# Altium schematic symbol library sensornode_v2.SCHLIB: 54 symbols
Pins are listed as number, name and electrical type; pins without a type are passive.

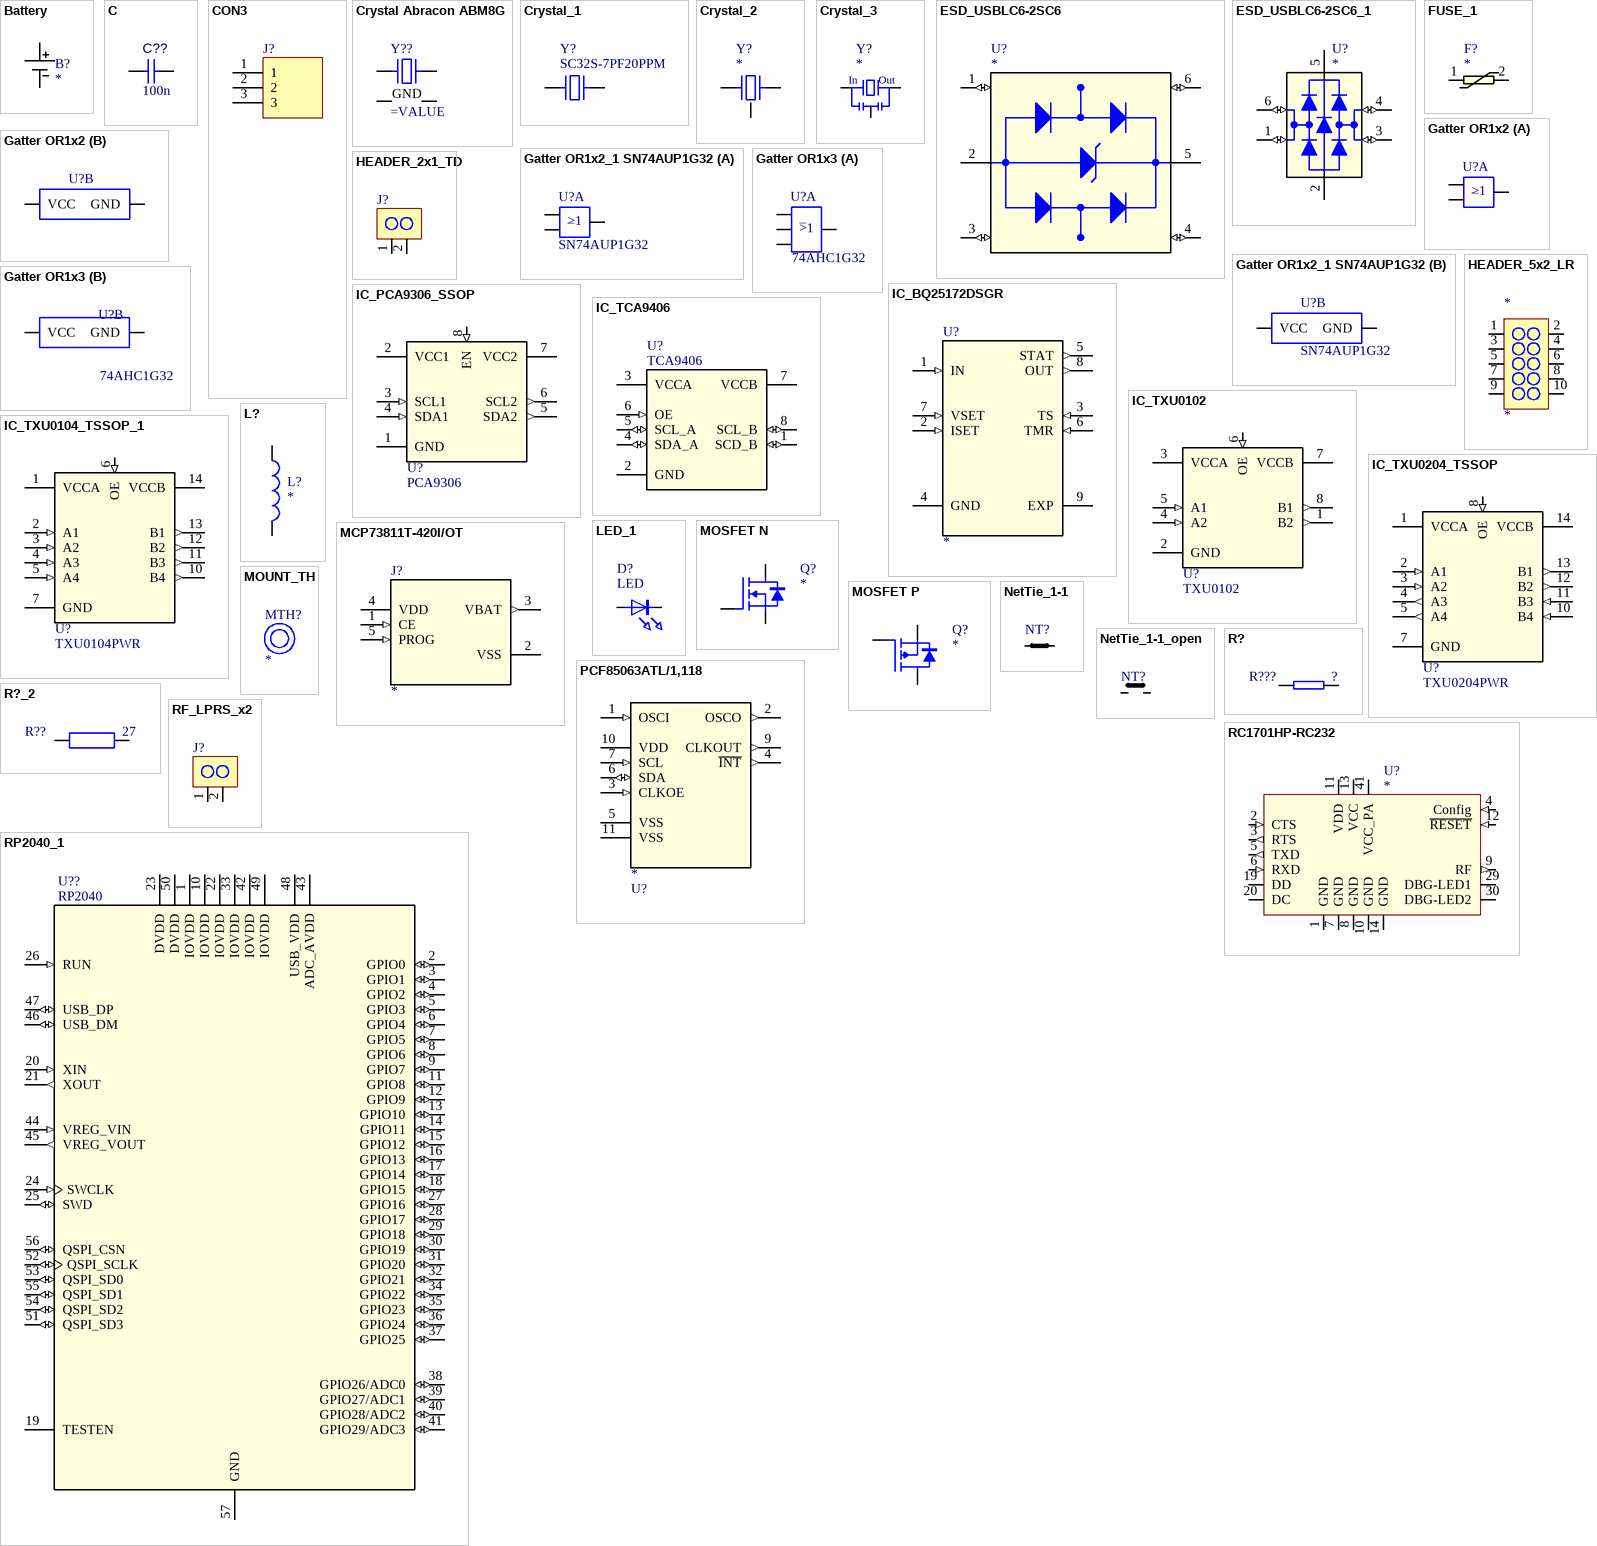
[diagram p0: symbols Battery to RP2040_1]

## Battery
designator B?
footprint BAT_CR1225_SMD_RENATA (Battery holder CR1225 SMD RENATA SMTU1225-LF)
footprint BAT_CR1216_MFR_SM_RENATA (Coin Cell Battery CR1216 2 PIN HORIZ SMT 25mAh RENATA)
pins: 1 +, 2 -

## C
designator C??, comment value 100n  (hidden comment: Capacitor 0402)
Manufacturer: TDK; Manufacturer Part Number: C1005X6S0J105K050BC; Manufacturer: Murata; Manufacturer Part Number: GRM155R60J105KE19D; Manufacturer: Kyocera AVX; Manufacturer Part Number: 04026D105KAT2A; Voltage Rating: 6.3V; Capacitor Type: Ceramic; Tolerance: 10%; Mounting Technology: SM; Min Operating Temperature: -55°C; Pins: 2; Case/Package: 0402; RoHS Compliant: True; Max Operating Temperature: 85°C; Component Type: Capacitors
footprint CAPC1005X55X25ML05T10 (Chip Capacitor, 2-Leads, Body 1.05x0.55mm, IPC Low Density)
footprint CAPC1005X55X25NL05T10 (Chip Capacitor, 2-Leads, Body 1.05x0.55mm, IPC Medium Density)
footprint CAPC1005X55X25LL05T10 (Chip Capacitor, 2-Leads, Body 1.05x0.55mm, IPC High Density)
pins: 1, 2

## CON3
designator J?
footprint HEADER_3_RM_2.54 (Header 3 Pin 2.54mm)
footprint 3 Pin Stiftleiste 90° 600V (3 Pin 600V 90° 3mm Rastermass (TE Connectivity  1-770967-0))
footprint HEADER_3_SMD_RM_2.54_FEMALE (SOCKET CONNECTORS 2.54 mm  MATING PIN Ø 0.76 mm / SINGLE ROW / DOUBLE ROW / SURFACE MOUNT)
footprint JST_S3B-PH-K-S(LF)(SN)
pins: 1, 2, 3

## Crystal Abracon ABM8G
designator Y??
SMT Crystal
pins: 1, 2 GND, 3, 4 GND

## Crystal_1
designator Y?, comment SC32S-7PF20PPM
Crystal; Value: SC32S-7PF20PPM
footprint SC32S7PF20PPM
pins: 1, 2

## Crystal_2
designator Y?
SMT Crystal; Value: *
footprint SC32S7PF20PPM
pins: 1, 2 GND, 3

## Crystal_3
designator Y?
SMT Crystal; Value: *
footprint SC32S7PF20PPM
pins: 1, 2 GND, 3
text: In; Out

## ESD_USBLC6-2SC6
designator U?
17V Clamp 5A (8/20Âµs) Ipp Tvs Diode Surface Mount SOT-23-6; MF: STMicroelectronics; MP: USBLC6-2SC6; Value: *; SnapEDA_Link: https://www.snapeda.com/parts/USBLC6-2SC6/STMicroelectronics/view-part/?ref=snap; Check_prices: https://www.snapeda.com/parts/USBLC6-2SC6/STMicroelectronics/view-part/?ref=eda; Purchase-URL: https://pricing.snapeda.com/search/part/USBLC6-2SC6/?ref=eda; Price: None; Availability: In Stock; Package: SOT-23-6 STMicroelectronics
footprint SOT95P280X145-6N
pins: 1 I/O1_IN (io), 2 GND (power), 3 I/O2_IN (io), 4 I/O2_OUT (io), 5 VBUS (power), 6 I/O1_OUT (io)

## ESD_USBLC6-2SC6_1
designator U?
17V Clamp 5A (8/20Âµs) Ipp Tvs Diode Surface Mount SOT-23-6; MF: STMicroelectronics; MP: USBLC6-2SC6; Value: *; SnapEDA_Link: https://www.snapeda.com/parts/USBLC6-2SC6/STMicroelectronics/view-part/?ref=snap; Check_prices: https://www.snapeda.com/parts/USBLC6-2SC6/STMicroelectronics/view-part/?ref=eda; Purchase-URL: https://pricing.snapeda.com/search/part/USBLC6-2SC6/?ref=eda; Price: None; Availability: In Stock; Package: SOT-23-6 STMicroelectronics
footprint SOT95P280X145-6N
pins: 1 I/O1_IN (io), 2 GND (power), 3 I/O2_IN (io), 4 I/O2_OUT (io), 5 VBUS (power), 6 I/O1_OUT (io)

## FUSE_1
designator F?
Resettable Fuse
pins: 1, 2

## Gatter OR1x2
designator U?
Package: SOT-353; Distributor: Farnell; Distributor Nr.: 1085242
footprint SOT-353 (SOT-353, (TSSOP5))
footprint SC-70-6
footprint SOT23-5
part A pins: 1 B, 2 A, 4 Y
part B pins: 3 GND, 5 VCC
part A text: >1; _

## Gatter OR1x2_1 SN74AUP1G32
designator U?, comment SN74AUP1G32
Value: SN74AUP1G32; Package: SOT-353; Distributor: Farnell; Distributor Nr.: 1085242; Supplier 1: Mouser; Supplier Part Number 1: 595-SN74AUP1G32DCKR
footprint SOT23-6
footprint SOT23-5
footprint SC-70-5
part A pins: 1 A, 2 B, 4 Y
part B pins: 3 GND, 5 VCC
part A text: >1; _

## Gatter OR1x3
designator U?, comment 74AHC1G32
Value: 74AHC1G32; Package: SOT-353; Distributor: Farnell; Distributor Nr.: 1085242
footprint SOT-353 (SOT-353, (TSSOP5))
footprint SC-70-6
part A pins: 1 A, 2 B, 3 C, 4 Y
part B pins: 3 GND, 5 VCC
part A text: _; >1

## HEADER_2x1_TD
designator J?  (value not drawn)
footprint HEADER_2_RM_2.54 (Header 2 Pin 2.54mm)
pins: 1, 2

## HEADER_5x2_LR
designator *
pins: 1, 2, 3, 4, 5, 6, 7, 8, 9, 10

## IC_BQ25172DSGR
designator U?
Charge IC. 0.8-A, one- to six-cell NiMH stand-alone linear charger in a QFN package; MF: Texas Instruments; MP: BQ25172DSGR; SnapEDA_Link: https://www.snapeda.com/parts/BQ25172DSGR/Texas+Instruments/view-part/?ref=snap; Package: None; Value: *; Check_prices: https://www.snapeda.com/parts/BQ25172DSGR/Texas+Instruments/view-part/?ref=eda
footprint IC_BQ25172DSGR
pins: 1 IN (in), 2 ISET (in), 3 TS (in), 4 GND (power), 5 STAT (out), 6 TMR (in), 7 VSET (in), 8 OUT (out), 9 EXP (power)

## IC_PCA9306_SSOP
designator U?, comment PCA9306
Dual Bidirectional I2C Bus and SMBus Voltage-Level Translator
pins: 1 GND (power), 2 VCC1 (power), 3 SCL1 (in), 4 SDA1 (in), 5 SDA2 (out), 6 SCL2 (out), 7 VCC2 (power), 8 EN (in)

## IC_TCA9406
designator U?, comment TCA9406
2-bit bidirectional 1MHz I2C/SMBus voltage level translator with internal pull-up resistor
footprint VSSOP_SOP50P310X90-8N
pins: 1 SCD_B (io), 2 GND, 3 VCCA, 4 SDA_A (io), 5 SCL_A (io), 6 OE (in), 7 VCCB, 8 SCL_B (io)

## IC_TXU0102
designator U?, comment TXU0102
Dual-channel fixed multidirectional level shifter
footprint VFSOP-8 (SOP50P310X90-8N)
pins: 1 B2 (out), 2 GND (power), 3 VCCA (power), 4 A2 (in), 5 A1 (in), 6 OE (in), 7 VCCB (power), 8 B1 (out)

## IC_TXU0104_TSSOP_1
designator U?, comment TXU0104PWR
Four-channel fixed multidirectional level shifter
footprint TSSOP-14 (TSSOP-14 / SOP65P640X120-14N)
pins: 1 VCCA (power), 2 A1 (in), 3 A2 (in), 4 A3 (in), 5 A4 (in), 6 OE (in), 7 GND (power), 10 B4 (out), 11 B3 (out), 12 B2 (out), 13 B1 (out), 14 VCCB (power)

## IC_TXU0204_TSSOP
designator U?, comment TXU0204PWR
Four-channel fixed multidirectional level shifter
footprint TSSOP-14 (TSSOP-14 / SOP65P640X120-14N)
pins: 1 VCCA (power), 2 A1 (in), 3 A2 (in), 4 A3 (out), 5 A4 (out), 7 GND (power), 8 OE (in), 10 B4 (in), 11 B3 (in), 12 B2 (out), 13 B1 (out), 14 VCCB (power)

## L?
designator L?
footprint L (Spule gross)
footprint L_Coilcraft_XAL8080 (Shielded Power Inductors 8.1 x 8.6 mm)
footprint 1206
footprint 4828_Bourns (12uH 4828 2A SRR4828A-120M)
footprint L_BOURNS_SRP3020TA
footprint L_BOURNS_SRU2013 (Bourns)
footprint L_TDK_NLFV32-EF
footprint 1608X65N_BEADC
pins: 1, 2

## LED_1
designator D?, comment LED
pins: A, K

## MCP73811T-420I/OT
designator J?
Charger IC Lithium Ion/Polymer SOT-23-5; MF: Microchip; MP: MCP73811T-420I/OT; Availability: In Stock; SnapEDA_Link: https://www.snapeda.com/parts/MCP73811T-420I/OT/Microchip/view-part/?ref=snap; Price: None; Check_prices: https://www.snapeda.com/parts/MCP73811T-420I/OT/Microchip/view-part/?ref=eda; Package: SOT-23 Microchip; Value: *; Purchase-URL: https://pricing.snapeda.com/search/part/MCP73811T-420I/OT/?ref=eda
footprint SOT95P280X145-5N
pins: 1 CE (in), 2 VSS (power), 3 VBAT (out), 4 VDD (power), 5 PROG (in)

## MOSFET N
designator Q?
footprint SON3x3 (VSON-CLIP (DQG))
footprint SON5x6 (VSONP (DQJ))
pins: D, G, S

## MOSFET P
designator Q?
pins: D DRAIN, G GATE, S SOURCE

## MOUNT_TH
designator MTH?  (mechanical)
Value: *

## NetTie_1-1
designator NT?, comment NetTie  (value not drawn)
pins: 1, 2

## NetTie_1-1_open
designator NT?, comment NetTie  (value not drawn)
pins: 1, 2

## PCF85063ATL/1,118
designator U?
Real Time Clock (RTC) IC Clock/Calendar - IÂ²C, 2-Wire Serial 10-XFDFN Exposed Pad; MP: PCF85063ATL/1,118; MF: NXP USA; SnapEDA_Link: https://www.snapeda.com/parts/PCF85063ATL/1,118/NXP+USA+Inc./view-part/?ref=snap; Availability: In Stock; Price: None; Package: DFN-10 NXP Semiconductors; Purchase-URL: https://pricing.snapeda.com/search/part/PCF85063ATL/1,118/?ref=eda; Value: *; Check_prices: https://www.snapeda.com/parts/PCF85063ATL/1,118/NXP+USA+Inc./view-part/?ref=eda
footprint 10-DFN(2.6X2.6)
pins: 1 OSCI (in), 2 OSCO (out), 3 CLKOE (in), 4 ~{INT} (out), 5 VSS (power), 6 SDA (io), 7 SCL (in), 9 CLKOUT (out), 10 VDD (power), 11 VSS (power)

## R?
designator R???, comment ?
Normaler Widerstand
footprint 0805
footprint MMB0207 (MELF MMB0207)
footprint MMA0204 (MINIMELF MMA0204)
footprint MMU0102 (MICROMELF MMU0102)
footprint 1206
footprint 1210
footprint R_0603_S
pins: 1, 2

## R?_2
designator R??, comment 27
Normaler Widerstand
footprint 0805
footprint MMB0207 (MELF MMB0207)
footprint MMA0204 (MINIMELF MMA0204)
footprint MMU0102 (MICROMELF MMU0102)
footprint 1206
footprint 1210
footprint R_0603_S
pins: 1, 2

## RC1701HP-RC232
designator U?
footprint RF_RC1701HP
pins: 1 GND, 2 CTS (in), 3 RTS (out), 4 Config (in), 5 TXD (out), 6 RXD (in), 7 GND, 8 GND, 9 RF (out), 10 GND, 11 VDD, 12 ~{RESET} (in), 13 VCC, 14 GND, 19 DD, 20 DC, 29 DBG-LED1, 30 DBG-LED2, 41 VCC_PA

## RF_LPRS_x2
designator J?  (value not drawn)
footprint SMARACONNECTOR
pins: 1, 2

## RP2040_1
designator U??, comment RP2040
RP2040 chip for Raspberry Pi Pico - ARMÂ® CortexÂ®-M0+ MCU 32-Bit; Check_prices: https://www.snapeda.com/parts/RP2040/Raspberry+Pi/view-part/?ref=eda; Value: *; Availability: In Stock; MP: RP2040; Price: None; Package: None; SnapEDA_Link: https://www.snapeda.com/parts/RP2040/Raspberry+Pi/view-part/?ref=snap; Purchase-URL: https://pricing.snapeda.com/search/part/RP2040/?ref=eda; MF: Raspberry Pi
footprint QFN40P700X700X90-57N
pins: 1 IOVDD (power), 2 GPIO0 (io), 3 GPIO1 (io), 4 GPIO2 (io), 5 GPIO3 (io), 6 GPIO4 (io), 7 GPIO5 (io), 8 GPIO6 (io), 9 GPIO7 (io), 10 IOVDD (power), 11 GPIO8 (io), 12 GPIO9 (io), 13 GPIO10 (io), 14 GPIO11 (io), 15 GPIO12 (io), 16 GPIO13 (io), 17 GPIO14 (io), 18 GPIO15 (io), 19 TESTEN, 20 XIN (in), 21 XOUT (out), 22 IOVDD (power), 23 DVDD (power), 24 SWCLK (in), 25 SWD (io), 26 RUN (in), 27 GPIO16 (io), 28 GPIO17 (io), 29 GPIO18 (io), 30 GPIO19 (io), 31 GPIO20 (io), 32 GPIO21 (io), 33 IOVDD (power), 34 GPIO22 (io), 35 GPIO23 (io), 36 GPIO24 (io), 37 GPIO25 (io), 38 GPIO26/ADC0 (io), 39 GPIO27/ADC1 (io), 40 GPIO28/ADC2 (io), 41 GPIO29/ADC3 (io), 42 IOVDD (power), 43 ADC_AVDD (power), 44 VREG_VIN (in), 45 VREG_VOUT (out), 46 USB_DM (io), 47 USB_DP (io), 48 USB_VDD (power), 49 IOVDD (power), 50 DVDD (power), 51 QSPI_SD3 (io), 52 QSPI_SCLK (io), 53 QSPI_SD0 (io), 54 QSPI_SD2 (io), 55 QSPI_SD1 (io), 56 QSPI_CSN (io), 57 GND (power)

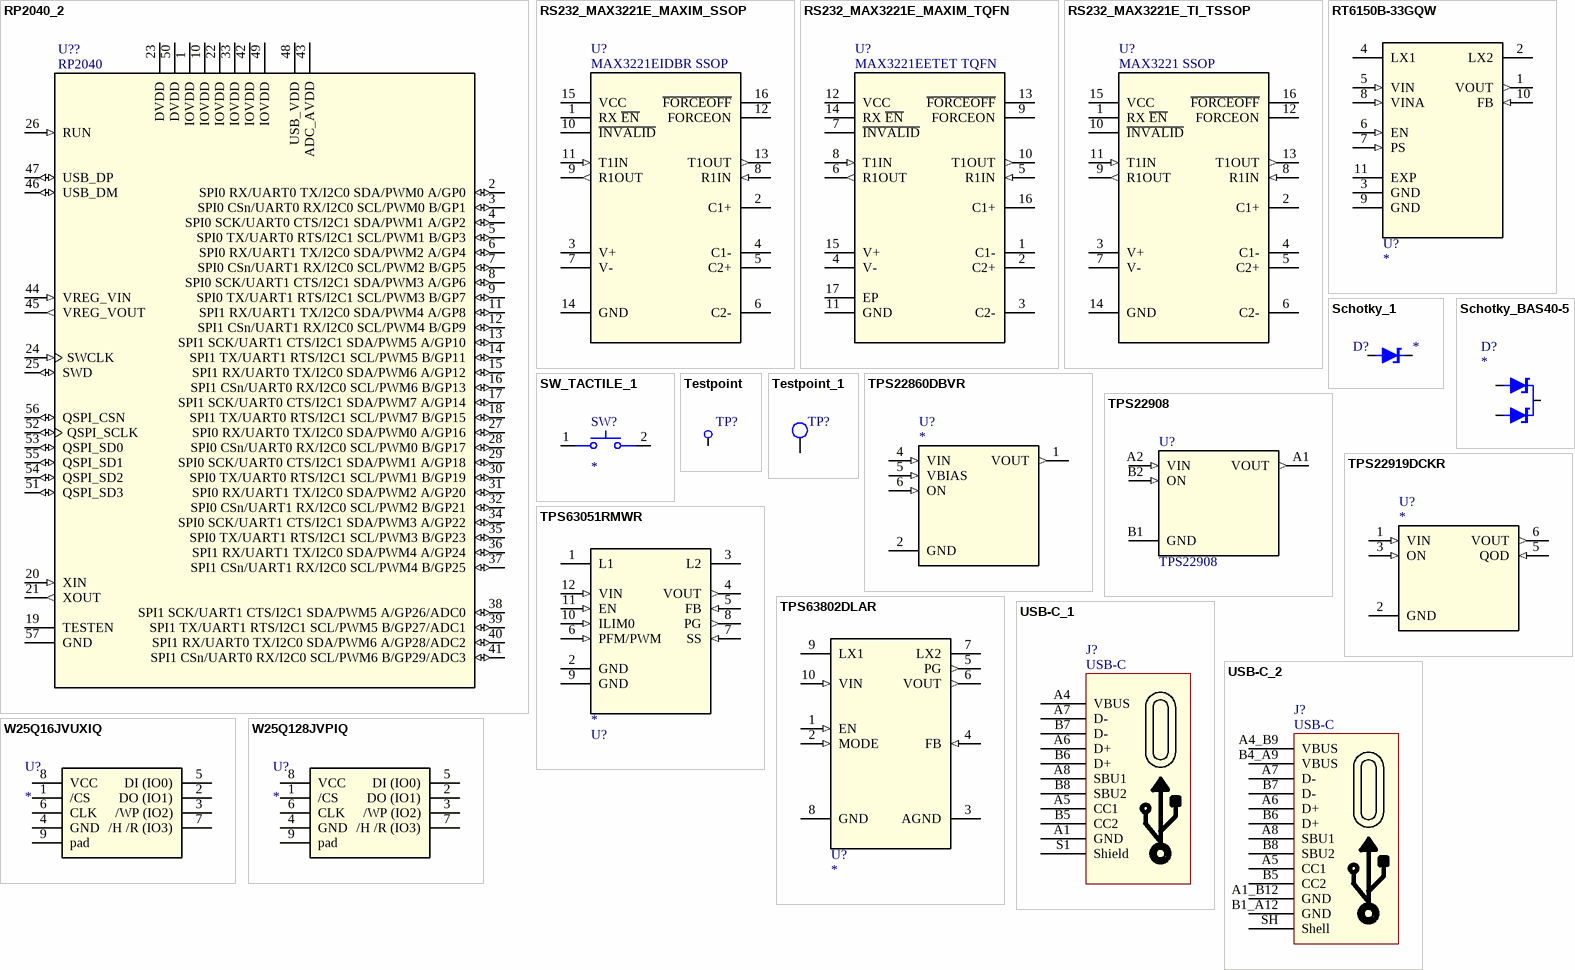
[diagram p1: symbols RP2040_2 to W25Q128JVPIQ]

## RP2040_2
designator U??, comment RP2040
RP2040 chip for Raspberry Pi Pico - ARMÂ® CortexÂ®-M0+ MCU 32-Bit; Check_prices: https://www.snapeda.com/parts/RP2040/Raspberry+Pi/view-part/?ref=eda; Value: *; Availability: In Stock; MP: RP2040; Price: None; Package: None; SnapEDA_Link: https://www.snapeda.com/parts/RP2040/Raspberry+Pi/view-part/?ref=snap; Purchase-URL: https://pricing.snapeda.com/search/part/RP2040/?ref=eda; MF: Raspberry Pi
footprint QFN40P700X700X90-57N
pins: 1 IOVDD (power), 2 SPI0 RX/UART0 TX/I2C0 SDA/PWM0 A/GP0 (io), 3 SPI0 CSn/UART0 RX/I2C0 SCL/PWM0 B/GP1 (io), 4 SPI0 SCK/UART0 CTS/I2C1 SDA/PWM1 A/GP2 (io), 5 SPI0 TX/UART0 RTS/I2C1 SCL/PWM1 B/GP3 (io), 6 SPI0 RX/UART1 TX/I2C0 SDA/PWM2 A/GP4 (io), 7 SPI0 CSn/UART1 RX/I2C0 SCL/PWM2 B/GP5 (io), 8 SPI0 SCK/UART1 CTS/I2C1 SDA/PWM3 A/GP6 (io), 9 SPI0 TX/UART1 RTS/I2C1 SCL/PWM3 B/GP7 (io), 10 IOVDD (power), 11 SPI1 RX/UART1 TX/I2C0 SDA/PWM4 A/GP8 (io), 12 SPI1 CSn/UART1 RX/I2C0 SCL/PWM4 B/GP9 (io), 13 SPI1 SCK/UART1 CTS/I2C1 SDA/PWM5 A/GP10 (io), 14 SPI1 TX/UART1 RTS/I2C1 SCL/PWM5 B/GP11 (io), 15 SPI1 RX/UART0 TX/I2C0 SDA/PWM6 A/GP12 (io), 16 SPI1 CSn/UART0 RX/I2C0 SCL/PWM6 B/GP13 (io), 17 SPI1 SCK/UART0 CTS/I2C1 SDA/PWM7 A/GP14 (io), 18 SPI1 TX/UART0 RTS/I2C1 SCL/PWM7 B/GP15 (io), 19 TESTEN, 20 XIN (in), 21 XOUT (out), 22 IOVDD (power), 23 DVDD (power), 24 SWCLK (in), 25 SWD (io), 26 RUN (in), 27 SPI0 RX/UART0 TX/I2C0 SDA/PWM0 A/GP16 (io), 28 SPI0 CSn/UART0 RX/I2C0 SCL/PWM0 B/GP17 (io), 29 SPI0 SCK/UART0 CTS/I2C1 SDA/PWM1 A/GP18 (io), 30 SPI0 TX/UART0 RTS/I2C1 SCL/PWM1 B/GP19 (io), 31 SPI0 RX/UART1 TX/I2C0 SDA/PWM2 A/GP20 (io), 32 SPI0 CSn/UART1 RX/I2C0 SCL/PWM2 B/GP21 (io), 33 IOVDD (power), 34 SPI0 SCK/UART1 CTS/I2C1 SDA/PWM3 A/GP22 (io), 35 SPI0 TX/UART1 RTS/I2C1 SCL/PWM3 B/GP23 (io), 36 SPI1 RX/UART1 TX/I2C0 SDA/PWM4 A/GP24 (io), 37 SPI1 CSn/UART1 RX/I2C0 SCL/PWM4 B/GP25 (io), 38 SPI1 SCK/UART1 CTS/I2C1 SDA/PWM5 A/GP26/ADC0 (io), 39 SPI1 TX/UART1 RTS/I2C1 SCL/PWM5 B/GP27/ADC1 (io), 40 SPI1 RX/UART0 TX/I2C0 SDA/PWM6 A/GP28/ADC2 (io), 41 SPI1 CSn/UART0 RX/I2C0 SCL/PWM6 B/GP29/ADC3 (io), 42 IOVDD (power), 43 ADC_AVDD (power), 44 VREG_VIN (in), 45 VREG_VOUT (out), 46 USB_DM (io), 47 USB_DP (io), 48 USB_VDD (power), 49 IOVDD (power), 50 DVDD (power), 51 QSPI_SD3 (io), 52 QSPI_SCLK (io), 53 QSPI_SD0 (io), 54 QSPI_SD2 (io), 55 QSPI_SD1 (io), 56 QSPI_CSN (io), 57 GND (power)

## RS232_MAX3221E_MAXIM_SSOP
designator U?, comment MAX3221EIDBR SSOP
Maxim integrated; Hersteller: Maxim Integrated
footprint SOP65P780X200-16N
pins: 1 RX ~{EN}, 2 C1+, 3 V+, 4 C1-, 5 C2+, 6 C2-, 7 V-, 8 R1IN (in), 9 R1OUT (out), 10 ~{INVALID}, 11 T1IN (in), 12 FORCEON, 13 T1OUT (out), 14 GND, 15 VCC, 16 ~{FORCEOFF}

## RS232_MAX3221E_MAXIM_TQFN
designator U?, comment MAX3221EETET TQFN
Maxim integrated; Parameter 1: *
pins: 1 C1-, 2 C2+, 3 C2-, 4 V-, 5 R1IN (in), 6 R1OUT (out), 7 ~{INVALID}, 8 T1IN (in), 9 FORCEON, 10 T1OUT (out), 11 GND, 12 VCC, 13 ~{FORCEOFF}, 14 RX ~{EN}, 15 V+, 16 C1+, 17 EP

## RS232_MAX3221E_TI_TSSOP
designator U?, comment MAX3221 SSOP
Maxim integrated; Hersteller: Maxim Integrated
footprint SSOP_SOP65P780X200-16N
pins: 1 RX ~{EN}, 2 C1+, 3 V+, 4 C1-, 5 C2+, 6 C2-, 7 V-, 8 R1IN (in), 9 R1OUT (out), 10 ~{INVALID}, 11 T1IN (in), 12 FORCEON, 13 T1OUT (out), 14 GND, 15 VCC, 16 ~{FORCEOFF}

## RT6150B-33GQW
designator U?
Buck-Boost Switching Regulator IC Positive Fixed 3.3V 1 Output 800mA 10-WFDFN Exposed Pad; MF: Richtek USA; MP: RT6150B-33GQW; SnapEDA_Link: https://www.snapeda.com/parts/RT6150B-33GQW/Richtek+USA+Inc./view-part/?ref=snap; Package: WFDFN-10 Richtek; Value: *; Check_prices: https://www.snapeda.com/parts/RT6150B-33GQW/Richtek+USA+Inc./view-part/?ref=eda
footprint SON50P250X250X80-11N
pins: 1 VOUT (out), 2 LX2, 3 GND (power), 4 LX1, 5 VIN (in), 6 EN (in), 7 PS (in), 8 VINA (in), 9 GND (power), 10 FB (in), 11 EXP (power)

## Schotky_1
designator D?
Value: *
pins: A, K

## Schotky_BAS40-5
designator D?
Value: *
footprint SOT-23
pins: 1 A, 2 A, 3 K

## SW_TACTILE_1
designator SW?
footprint SWITCH_B3FS1010P
pins: 1, 2

## Testpoint
designator TP?
Testpoint
footprint TP2.54-1.0
footprint TP2.54-1.3
footprint TP4.5-1.5
footprint Testpoint_SMD
footprint Testpunkt
footprint TP_0.5mm (Testpunkt 0.5mm Durchmesser)
footprint TP_1.0mm (Testpunkt 1.0mm Durchmesser)
pins: 1

## Testpoint_1
designator TP?
Testpoint
footprint TP2.54-1.0
footprint TP2.54-1.3
footprint TP4.5-1.5
footprint Testpoint_SMD
footprint Testpunkt
footprint TP_0.5mm (Testpunkt 0.5mm Durchmesser)
footprint TP_1.0mm (Testpunkt 1.0mm Durchmesser)
pins: 1

## TPS22860DBVR
designator U?
0.73-?, 5-V, ultra-low leakage load switch 6-SOT-23 -40 to 85; MP: TPS22860DBVR; MF: Texas Instruments; SnapEDA_Link: https://www.snapeda.com/parts/TPS22860DBVR/Texas%20Instruments/view-part/473340/?ref=snap; Texas_Instruments-Purchase-URL: https://snapeda.com/shop?store=Texas+Instruments&id=473340; Value: *; Package: SOT-23-6 Texas Instruments; Digi-Key_Part_Number: 296-43982-1-ND
footprint SOT95P280X145-6N
pins: 1 VOUT (out), 2 GND (power), 4 VIN (in), 5 VBIAS (in), 6 ON (in)

## TPS22908
designator U?
3.6-V, 1-A, 28-mΩ On-Resistance Load Switch with Controlled Rise Time; MP: TPS22860DBVR; MF: Texas Instruments; SnapEDA_Link: https://www.snapeda.com/parts/TPS22860DBVR/Texas%20Instruments/view-part/473340/?ref=snap; Texas_Instruments-Purchase-URL: https://snapeda.com/shop?store=Texas+Instruments&id=473340; Value: TPS22908; Package: SOT-23-6 Texas Instruments; Digi-Key_Part_Number: 296-43982-1-ND
footprint BGA4C50P2X2_88X88X62N
pins: A1 VOUT (out), A2 VIN (in), B1 GND (power), B2 ON (in)

## TPS22919DCKR
designator U?
5.5-V, 1.5-A, 90-mΩ load switch with adj. output discharge; MP: TPS22860DBVR; MF: Texas Instruments; SnapEDA_Link: https://www.snapeda.com/parts/TPS22860DBVR/Texas%20Instruments/view-part/473340/?ref=snap; Texas_Instruments-Purchase-URL: https://snapeda.com/shop?store=Texas+Instruments&id=473340; Value: *; Package: SOT-23-6 Texas Instruments; Digi-Key_Part_Number: 296-43982-1-ND
footprint SOT65P210X110-6N
pins: 1 VIN (in), 2 GND (power), 3 ON (in), 5 QOD (in) "Quick Output Discharge", 6 VOUT (out)

## TPS63051RMWR
designator U?
Buck-Boost Switching Regulator IC Positive Fixed 3.3V 1 Output 500mA 12-VFQFN; MF: Texas Instruments; MP: TPS63051RMWR; Package: VQFN-12 Texas Instruments; Value: *; Price: None; SnapEDA_Link: https://www.snapeda.com/parts/TPS63051RMWR/Texas%20Instruments/view-part/423860/?ref=snap; Availability: Unavailable
footprint QFN50P250X250X100-12N
pins: 1 L1, 2 GND (power), 3 L2, 4 VOUT (out), 5 FB (in), 6 PFM/PWM (in), 7 SS (in), 8 PG (out), 9 GND (power), 10 ILIM0 (in), 11 EN (in), 12 VIN (in)

## TPS63802DLAR
designator U?
MF: Richtek USA; MP: RT6150B-33GQW; SnapEDA_Link: https://www.snapeda.com/parts/RT6150B-33GQW/Richtek+USA+Inc./view-part/?ref=snap; Package: WFDFN-10 Richtek; Value: *; Check_prices: https://www.snapeda.com/parts/RT6150B-33GQW/Richtek+USA+Inc./view-part/?ref=eda
footprint VREG_TPS63802DLAR
pins: 1 EN (in), 2 MODE (in), 3 AGND (power), 4 FB (in), 5 PG (out), 6 VOUT (out), 7 LX2, 8 GND (power), 9 LX1, 10 VIN (in)

## USB-C_1
designator J?, comment USB-C
Connector 24 (16+8 Dummy)
pins: A1 GND, A4 VBUS, A5 CC1, A6 D+, A7 D-, A8 SBU1, B5 CC2, B6 D+, B7 D-, B8 SBU2, S1 Shield

## USB-C_2
designator J?, comment USB-C
Connector 24 (16+8 Dummy)
footprint USB_GCT_4105-GF-A
pins: A1_B12 GND, A4_B9 VBUS, A5 CC1, A6 D+, A7 D-, A8 SBU1, B1_A12 GND, B4_A9 VBUS, B5 CC2, B6 D+, B7 D-, B8 SBU2, SH Shell

## W25Q16JVUXIQ
designator U?
No Description Available; Mfr_Name: Winbond; RefDes: RefDes; Type: Type
footprint SON50P300X200X60-9N
pins: 1 /CS, 2 DO (IO1), 3 /WP (IO2), 4 GND, 5 DI (IO0), 6 CLK, 7 /H /R (IO3) "/HOLD or /RESET (IO3)", 8 VCC (power), 9 pad

## W25Q128JVPIQ
designator U?
No Description Available; Mfr_Name: Winbond; RefDes: RefDes; Type: Type
footprint WSON_128JVPIQ_WIN
pins: 1 /CS, 2 DO (IO1), 3 /WP (IO2), 4 GND, 5 DI (IO0), 6 CLK, 7 /H /R (IO3) "/HOLD or /RESET (IO3)", 8 VCC (power), 9 pad